# EAGLE library part INA219 (library template_board)
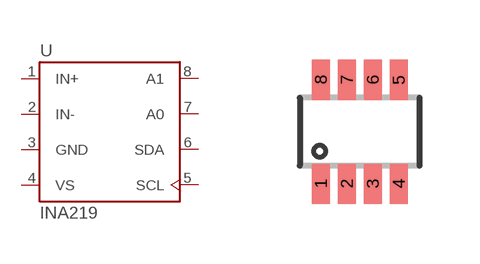
[diagram p29: symbol with the pads of SOT-23-8; footprint SOT-23-8]

Designator prefix -

## INA219  [SOT-23-8]
1  IN+  in
2  IN-  in
3  GND  pwr
4  VS  pwr
5  SCL  in
6  SDA  out
7  A0  in
8  A1  in

## Footprint SOT-23-8 (pad centres in mm)
smd 0.45 x 1: 1 -0.975,-1.3; 2 -0.325,-1.3; 3 0.325,-1.3; 4 0.975,-1.3; 5 0.975,1.3; 6 0.325,1.3; 7 -0.325,1.3; 8 -0.975,1.3